# Altium integrated library ppdInt.IntLib: 6 symbols
Pins are listed as number, name and electrical type; pins without a type are passive.

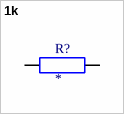
[diagram p0: symbol 1k]

## 1k
designator R?
footprint Resistencia
pins: 1, 2


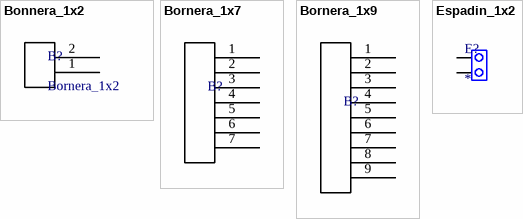
[diagram p1: symbols Bonnera_1x2 to Espadin_1x2]

## Bonnera_1x2
designator B?, comment Bornera_1x2
footprint Bornera_1x2
pins: 1, 2

## Bornera_1x7
designator B?  (value not drawn)
footprint BORNERA_1x7
pins: 1, 2, 3, 4, 5, 6, 7

## Bornera_1x9
designator B?  (value not drawn)
footprint bornera_1x9
pins: 1, 2, 3, 4, 5, 6, 7, 8, 9

## Espadin_1x2
designator E?
footprint Espadin_1x2
pins: 1, 2


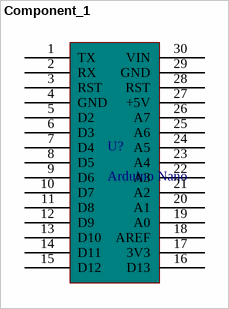
[diagram p2: symbol Component_1]

## Component_1
designator U?, comment Arduino Nano
footprint PCBComponent_1
pins: 1 TX, 2 RX, 3 RST, 4 GND, 5 D2, 6 D3, 7 D4, 8 D5, 9 D6, 10 D7, 11 D8, 12 D9, 13 D10, 14 D11, 15 D12, 16 D13, 17 3V3, 18 AREF, 19 A0, 20 A1, 21 A2, 22 A3, 23 A4, 24 A5, 25 A6, 26 A7, 27 +5V, 28 RST, 29 GND, 30 VIN